# EAGLE library part FTDI_SERIAL_HEADER (library hello_radio_016)
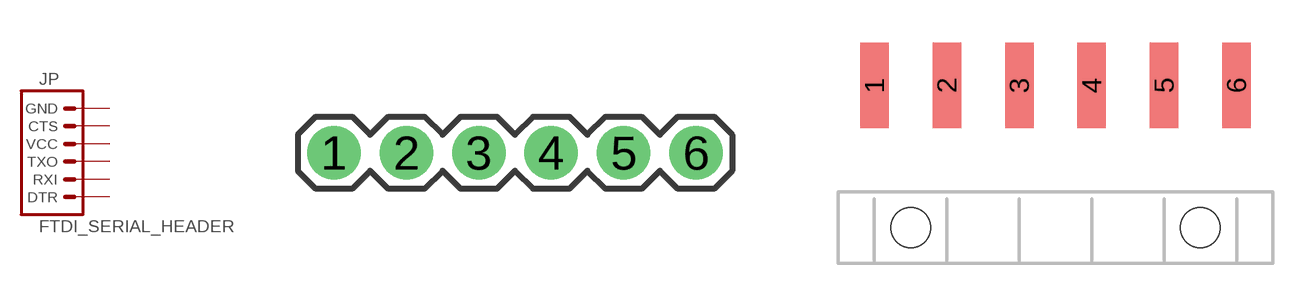
[diagram p1: symbol with the pads of 1X06; footprints 1X06, 1X06_SMD]

Designator prefix JP

## FTDI_SERIAL_HEADER_PTH  [1X06]
1  DTR  pas
2  RXI  pas
3  TXO  pas
4  VCC  pas
5  CTS  pas
6  GND  pas

## FTDI_SERIAL_HEADER_SMD  [1X06_SMD]
Pads as for 1X06

## Footprint 1X06 (pad centres in mm)
drill 1.016 pad 1.88 round: 1 0,0; 2 2.54,0; 3 5.08,0; 4 7.62,0; 5 10.16,0; 6 12.7,0

## Footprint 1X06_SMD (pad centres in mm)
smd 1 x 3: 1 -6.35,5; 2 -3.81,5; 3 -1.27,5; 4 1.27,5; 5 3.81,5; 6 6.35,5
hole 1.4 at -5.08,0
hole 1.4 at 5.08,0